# EAGLE library part SERVO-5 (library connector)
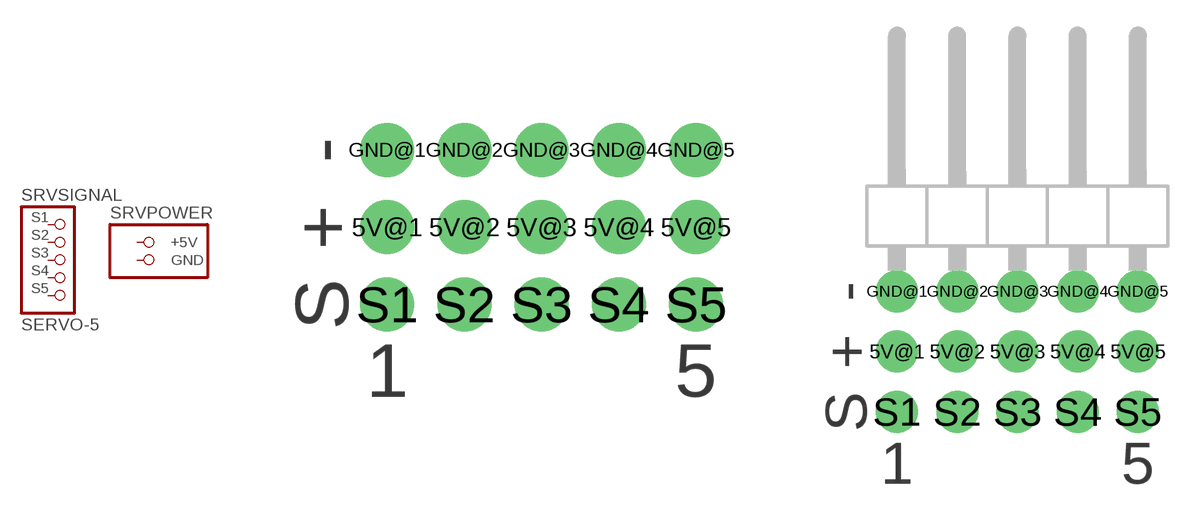
[diagram p1: symbol with the pads of SERVO-05; footprints SERVO-05, SERVO-05/90]

Designator prefix SRV; gates SIGNAL=HEADER-5POS POWER=PWR5V

## SERVO-5  [SERVO-05]
5V@1  POWER:+5V  pwr
5V@2  POWER:+5V  pwr
5V@3  POWER:+5V  pwr
5V@4  POWER:+5V  pwr
5V@5  POWER:+5V  pwr
GND@1  POWER:GND  pwr
GND@2  POWER:GND  pwr
GND@3  POWER:GND  pwr
GND@4  POWER:GND  pwr
GND@5  POWER:GND  pwr
S1  SIGNAL:P$1
S2  SIGNAL:P$2
S3  SIGNAL:P$3
S4  SIGNAL:P$4
S5  SIGNAL:P$5

## SERVO-5/90  [SERVO-05/90]
Pads as for SERVO-05

## Footprint SERVO-05 (pad centres in mm)
drill 1 pad 1.778: 5V@1 -5.08,0; 5V@2 -2.54,0; 5V@3 0,0; 5V@4 2.54,0; 5V@5 5.08,0; GND@1 -5.08,2.54; GND@2 -2.54,2.54; GND@3 0,2.54; GND@4 2.54,2.54; GND@5 5.08,2.54; S1 -5.08,-2.54; S2 -2.54,-2.54; S3 0,-2.54; S4 2.54,-2.54; S5 5.08,-2.54

## Footprint SERVO-05/90 (pad centres in mm)
drill 1 pad 1.778: 5V@1 -5.08,0; 5V@2 -2.54,0; 5V@3 0,0; 5V@4 2.54,0; 5V@5 5.08,0; GND@1 -5.08,2.54; GND@2 -2.54,2.54; GND@3 0,2.54; GND@4 2.54,2.54; GND@5 5.08,2.54; S1 -5.08,-2.54; S2 -2.54,-2.54; S3 0,-2.54; S4 2.54,-2.54; S5 5.08,-2.54